# Altium footprint library PIC32MX795F512H-80I_PT.PcbLib: 3 footprints
Each footprint in its own frame and in the unit in brackets; x right, y up, seen from the top. Pads: shape width x height; smd on the part's side, far side on the other; paste and mask are expansions set on the pad; w line width, h text height; cw(c..) or ccw(c..) is an arc to the next point about the centre after c.
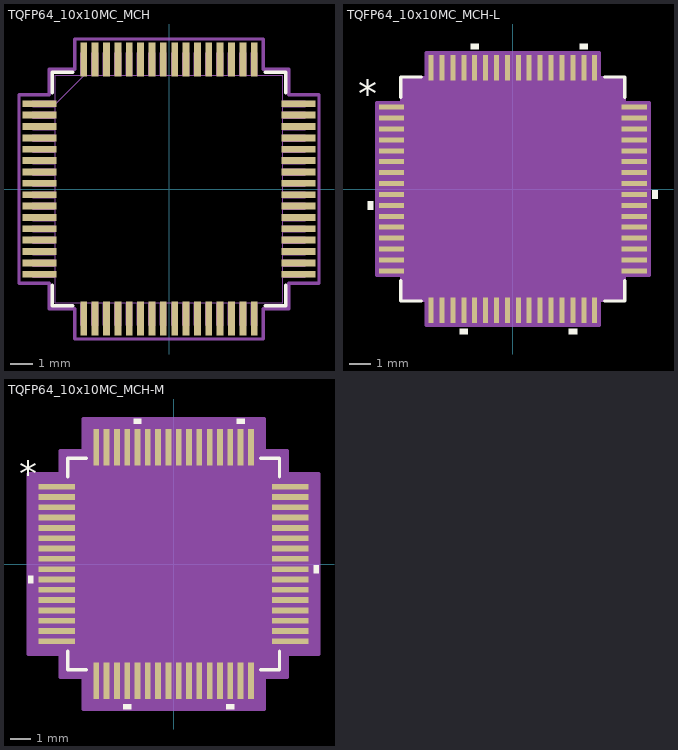
[diagram p0: the footprints below, top view; thin cyan lines are the x and y axes]

## TQFP64_10x10MC_MCH [mm]
pads (64):
  rect 1.5x0.3 smd paste+0 mask+0: 1(-5.7,3.75) 2(-5.7,3.25) 3(-5.7,2.75) 4(-5.7,2.25) 5(-5.7,1.75) 6(-5.7,1.25) 7(-5.7,0.75) 8(-5.7,0.25) 9(-5.7,-0.25) 10(-5.7,-0.75) 11(-5.7,-1.25) 12(-5.7,-1.75) 13(-5.7,-2.25) 14(-5.7,-2.75) 15(-5.7,-3.25) 16(-5.7,-3.75) 33(5.7,-3.75) 34(5.7,-3.25) 35(5.7,-2.75) 36(5.7,-2.25) 37(5.7,-1.75) 38(5.7,-1.25) 39(5.7,-0.75) 40(5.7,-0.25) 41(5.7,0.25) 42(5.7,0.75) 43(5.7,1.25) 44(5.7,1.75) 45(5.7,2.25) 46(5.7,2.75) 47(5.7,3.25) 48(5.7,3.75)
  rect 0.3x1.5 smd paste+0 mask+0: 17(-3.75,-5.7) 18(-3.25,-5.7) 19(-2.75,-5.7) 20(-2.25,-5.7) 21(-1.75,-5.7) 22(-1.25,-5.7) 23(-0.75,-5.7) 24(-0.25,-5.7) 25(0.25,-5.7) 26(0.75,-5.7) 27(1.25,-5.7) 28(1.75,-5.7) 29(2.25,-5.7) 30(2.75,-5.7) 31(3.25,-5.7) 32(3.75,-5.7) 49(3.75,5.7) 50(3.25,5.7) 51(2.75,5.7) 52(2.25,5.7) 53(1.75,5.7) 54(1.25,5.7) 55(0.75,5.7) 56(0.25,5.7) 57(-0.25,5.7) 58(-0.75,5.7) 59(-1.25,5.7) 60(-1.75,5.7) 61(-2.25,5.7) 62(-2.75,5.7) 63(-3.25,5.7) 64(-3.75,5.7)
Top Overlay:
  lines w0.152: -5.131,-4.222 -5.131,-5.131 -4.222,-5.131 ; -5.131,4.222 -5.131,5.131 -4.222,5.131 ; 4.222,-5.131 5.131,-5.131 5.131,-4.222 ; 4.222,5.131 5.131,5.131 5.131,4.222
  text "." at -6.223,4.191 h1.27
Mechanical 13:
  drawing of 261 lines, arcs and shapes, not listed
  text "*" at -4.94,3.365 h1.27
Mechanical 15:
  lines w0.152: -6.598,-4.144 -6.598,4.144 -5.258,4.144 -5.258,5.258 -4.144,5.258 -4.144,6.598 4.144,6.598 4.144,5.258 5.258,5.258 5.258,4.144 6.598,4.144 6.598,-4.144 5.258,-4.144 5.258,-5.258 4.144,-5.258 4.144,-6.598 -4.144,-6.598 -4.144,-5.258 -5.258,-5.258 -5.258,-4.144 -6.598,-4.144
3D body "TQFP64_10x10MC_MCH.step": height 1.2, standoff 0, extent -5.994,-5.994 5.994,5.994

## TQFP64_10x10MC_MCH-L [mm]
pads (64):
  rect 1.162x0.229 smd paste+0 mask+0: 1(-5.563,3.75) 2(-5.563,3.25) 3(-5.563,2.75) 4(-5.563,2.25) 5(-5.563,1.75) 6(-5.563,1.25) 7(-5.563,0.75) 8(-5.563,0.25) 9(-5.563,-0.25) 10(-5.563,-0.75) 11(-5.563,-1.25) 12(-5.563,-1.75) 13(-5.563,-2.25) 14(-5.563,-2.75) 15(-5.563,-3.25) 16(-5.563,-3.75) 33(5.563,-3.75) 34(5.563,-3.25) 35(5.563,-2.75) 36(5.563,-2.25) 37(5.563,-1.75) 38(5.563,-1.25) 39(5.563,-0.75) 40(5.563,-0.25) 41(5.563,0.25) 42(5.563,0.75) 43(5.563,1.25) 44(5.563,1.75) 45(5.563,2.25) 46(5.563,2.75) 47(5.563,3.25) 48(5.563,3.75)
  rect 0.229x1.162 smd paste+0 mask+0: 17(-3.75,-5.563) 18(-3.25,-5.563) 19(-2.75,-5.563) 20(-2.25,-5.563) 21(-1.75,-5.563) 22(-1.25,-5.563) 23(-0.75,-5.563) 24(-0.25,-5.563) 25(0.25,-5.563) 26(0.75,-5.563) 27(1.25,-5.563) 28(1.75,-5.563) 29(2.25,-5.563) 30(2.75,-5.563) 31(3.25,-5.563) 32(3.75,-5.563) 49(3.75,5.563) 50(3.25,5.563) 51(2.75,5.563) 52(2.25,5.563) 53(1.75,5.563) 54(1.25,5.563) 55(0.75,5.563) 56(0.25,5.563) 57(-0.25,5.563) 58(-0.75,5.563) 59(-1.25,5.563) 60(-1.75,5.563) 61(-2.25,5.563) 62(-2.75,5.563) 63(-3.25,5.563) 64(-3.75,5.563)
Top Overlay:
  region: -1.559,6.398 -1.94,6.398 -1.94,6.652 -1.559,6.652
  region: 3.441,6.398 3.06,6.398 3.06,6.652 3.441,6.652
  region: 6.398,-0.059 6.652,-0.059 6.652,-0.44 6.398,-0.44
  region: 2.94,-6.398 2.559,-6.398 2.559,-6.652 2.94,-6.652
  region: -2.06,-6.398 -2.441,-6.398 -2.441,-6.652 -2.06,-6.652
  region: -6.398,-0.56 -6.652,-0.56 -6.652,-0.941 -6.398,-0.941
  lines w0.152: -5.131,-4.197 -5.131,-5.131 -4.197,-5.131 ; -5.131,4.197 -5.131,5.131 -4.197,5.131 ; 4.197,-5.131 5.131,-5.131 5.131,-4.197 ; 4.197,5.131 5.131,5.131 5.131,4.197
  text "*" at -7.097,3.746 h1.27
Mechanical 13:
  drawing of 261 lines, arcs and shapes, not listed
  text "*" at -4.94,3.365 h1.27
Mechanical 15:
  region: -3.966,-5.105 -5.105,-5.105 -5.105,-3.966 -6.246,-3.966 -6.246,3.966 -5.105,3.966 -5.105,5.105 -3.966,5.105 -3.966,6.246 3.966,6.246 3.966,5.105 5.105,5.105 5.105,3.966 6.246,3.966 6.246,-3.966 5.105,-3.966 5.105,-5.105 3.966,-5.105 3.966,-6.246 -3.966,-6.246
  lines w0.152: -6.246,-3.966 -6.246,3.966 -5.105,3.966 -5.105,5.105 -3.966,5.105 -3.966,6.246 3.966,6.246 3.966,5.105 5.105,5.105 5.105,3.966 6.246,3.966 6.246,-3.966 5.105,-3.966 5.105,-5.105 3.966,-5.105 3.966,-6.246 -3.966,-6.246 -3.966,-5.105 -5.105,-5.105 -5.105,-3.966 -6.246,-3.966
3D body "TQFP64_10x10MC_MCH.step": height 1.2, standoff 0, extent -5.994,-5.994 5.994,5.994

## TQFP64_10x10MC_MCH-M [mm]
pads (64):
  rect 1.762x0.279 smd paste+0 mask+0: 1(-5.663,3.75) 2(-5.663,3.25) 3(-5.663,2.75) 4(-5.663,2.25) 5(-5.663,1.75) 6(-5.663,1.25) 7(-5.663,0.75) 8(-5.663,0.25) 9(-5.663,-0.25) 10(-5.663,-0.75) 11(-5.663,-1.25) 12(-5.663,-1.75) 13(-5.663,-2.25) 14(-5.663,-2.75) 15(-5.663,-3.25) 16(-5.663,-3.75) 33(5.663,-3.75) 34(5.663,-3.25) 35(5.663,-2.75) 36(5.663,-2.25) 37(5.663,-1.75) 38(5.663,-1.25) 39(5.663,-0.75) 40(5.663,-0.25) 41(5.663,0.25) 42(5.663,0.75) 43(5.663,1.25) 44(5.663,1.75) 45(5.663,2.25) 46(5.663,2.75) 47(5.663,3.25) 48(5.663,3.75)
  rect 0.279x1.762 smd paste+0 mask+0: 17(-3.75,-5.663) 18(-3.25,-5.663) 19(-2.75,-5.663) 20(-2.25,-5.663) 21(-1.75,-5.663) 22(-1.25,-5.663) 23(-0.75,-5.663) 24(-0.25,-5.663) 25(0.25,-5.663) 26(0.75,-5.663) 27(1.25,-5.663) 28(1.75,-5.663) 29(2.25,-5.663) 30(2.75,-5.663) 31(3.25,-5.663) 32(3.75,-5.663) 49(3.75,5.663) 50(3.25,5.663) 51(2.75,5.663) 52(2.25,5.663) 53(1.75,5.663) 54(1.25,5.663) 55(0.75,5.663) 56(0.25,5.663) 57(-0.25,5.663) 58(-0.75,5.663) 59(-1.25,5.663) 60(-1.75,5.663) 61(-2.25,5.663) 62(-2.75,5.663) 63(-3.25,5.663) 64(-3.75,5.663)
Top Overlay:
  region: -6.798,-0.56 -7.052,-0.56 -7.052,-0.941 -6.798,-0.941
  region: -2.06,-6.798 -2.441,-6.798 -2.441,-7.052 -2.06,-7.052
  region: 2.94,-6.798 2.559,-6.798 2.559,-7.052 2.94,-7.052
  region: 6.798,-0.059 7.052,-0.059 7.052,-0.44 6.798,-0.44
  region: 3.441,6.798 3.06,6.798 3.06,7.052 3.441,7.052
  region: -1.559,6.798 -1.94,6.798 -1.94,7.052 -1.559,7.052
  lines w0.152: -5.131,-4.222 -5.131,-5.131 -4.222,-5.131 ; -5.131,4.222 -5.131,5.131 -4.222,5.131 ; 4.222,-5.131 5.131,-5.131 5.131,-4.222 ; 4.222,5.131 5.131,5.131 5.131,4.222
  text "*" at -7.497,3.746 h1.27
Mechanical 13:
  drawing of 261 lines, arcs and shapes, not listed
  text "*" at -4.94,3.365 h1.27
Mechanical 15:
  region: -4.398,-5.512 -5.512,-5.512 -5.512,-4.398 -7.052,-4.398 -7.052,4.398 -5.512,4.398 -5.512,5.512 -4.398,5.512 -4.398,7.052 4.398,7.052 4.398,5.512 5.512,5.512 5.512,4.398 7.052,4.398 7.052,-4.398 5.512,-4.398 5.512,-5.512 4.398,-5.512 4.398,-7.052 -4.398,-7.052
  lines w0.152: -7.052,-4.398 -5.512,-4.398 -5.512,-5.512 -4.398,-5.512 -4.398,-7.052 4.398,-7.052 4.398,-5.512 5.512,-5.512 5.512,-4.398 7.052,-4.398 7.052,4.398 5.512,4.398 5.512,5.512 4.398,5.512 4.398,7.052 -4.398,7.052 -4.398,5.512 -5.512,5.512 -5.512,4.398 -7.052,4.398 -7.052,-4.398
3D body "TQFP64_10x10MC_MCH.step": height 1.2, standoff 0, extent -5.994,-5.994 5.994,5.994